# Altium schematic symbol library IC_MEMS.SchLib: 11 symbols
Pins are listed as number, name and electrical type; pins without a type are passive.

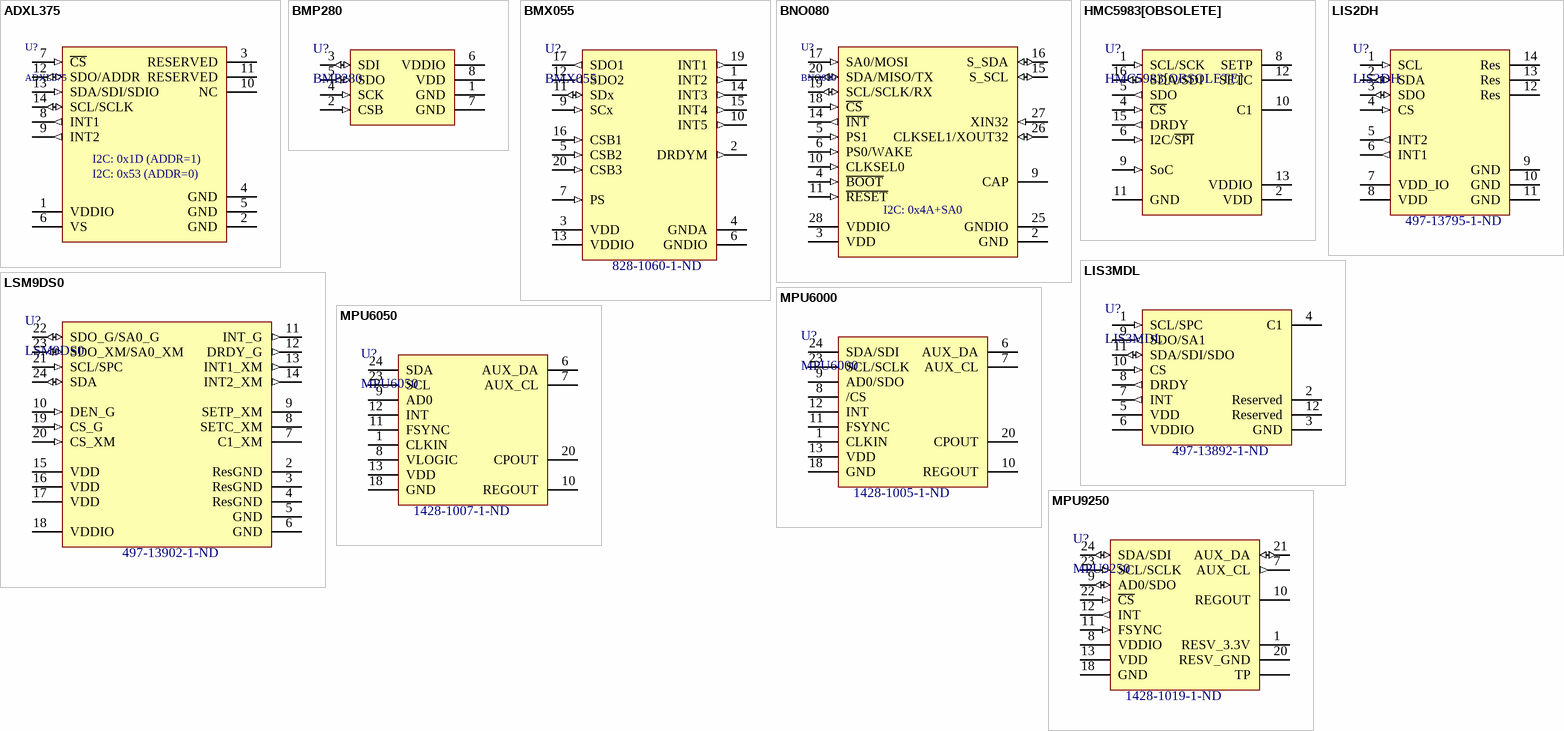
[diagram p0: symbols ADXL375 to MPU9250]

## ADXL375
designator U?
9-axis Acc/Gyro/Mag Cortex-M0+ SiP; HelpURL: http://www.analog.com/media/en/technical-documentation/data-sheets/ADXL375.pdf
footprint LGA-14-3x5 (PQFN, 14-Leads, Body 2,00x2,00mm, Pitch 0,35mm, IPC Medium Density)
pins: 1 VDDIO (power), 2 GND, 3 RESERVED (power), 4 GND, 5 GND, 6 VS (power), 7 ~{CS} (in), 8 INT1 (out), 9 INT2 (out), 10 NC, 11 RESERVED (power), 12 SDO/ADDR (io), 13 SDA/SDI/SDIO (in), 14 SCL/SCLK (io)
text: I2C: 0x1D (ADDR=1); I2C: 0x53 (ADDR=0)

## BMP280
designator U?
Digital Pressure Sensor; Manufacturer: Bosch Sensortec; Supplier 1: Digi-Key
footprint BMP280_LGA2520
pins: 1 GND (power), 2 CSB (in), 3 SDI (io), 4 SCK (in), 5 SDO (io), 6 VDDIO (power), 7 GND (power), 8 VDD (power)

## BMX055
designator U?  Supplier Part Number 1: 828-1060-1-ND
Small versatile 9-axis sensor module; Supplier 1: Digi-Key
footprint LGA20 (QFN, 20-Leads, Body 3,00x4,50mm, Pitch 0,50mm, IPC Medium Density)
pins: 1 INT2 (out), 2 DRDYM (out), 3 VDD, 4 GNDA, 5 CSB2 (in), 6 GNDIO, 7 PS (in), 9 SCx (in), 10 INT5 (out), 11 SDx (io), 12 SDO2 (out), 13 VDDIO, 14 INT3 (out), 15 INT4 (out), 16 CSB1 (in), 17 SDO1 (out), 19 INT1 (out), 20 CSB3 (in)

## BNO080
designator U?
9-axis Acc/Gyro/Mag Cortex-M0+ SiP; HelpURL: http://hillcrestlabs.com/download/4966/
footprint LGA-28-0.5-5.2x3.8 (PQFN, 28-Leads, Body 5,20x3,80mm, Pitch 0,50mm, IPC Medium Density)
pins: 2 GND, 3 VDD (power), 4 ~{BOOT} (in), 5 PS1 (in), 6 PS0/WAKE (in), 9 CAP, 10 CLKSEL0 (in), 11 ~{RESET} (in), 14 ~{INT} (out), 15 S_SCL (io), 16 S_SDA (io), 17 SA0/MOSI (in), 18 ~{CS} (in), 19 SCL/SCLK/RX (io), 20 SDA/MISO/TX (io), 25 GNDIO, 26 CLKSEL1/XOUT32 (io), 27 XIN32 (in), 28 VDDIO (power)
text: I2C: 0x4A+SA0

## HMC5983[OBSOLETE]
designator U?
3-Axis Digital Compass; HelpURL: http://www.farnell.com/datasheets/1802211.pdf
footprint QFN-16-0.5-3x3
footprint QFN-16-0.5-3x3_TP
pins: 1 SCL/SCK (in), 2 VDD, 4 ~{CS} (in), 5 SDO (out), 6 I2C/~{SPI} (in), 8 SETP, 9 SoC (in), 10 C1, 11 GND, 12 SETC, 13 VDDIO, 15 DRDY (out), 16 SDA/SDI (io)

## LIS2DH
designator U?  Supplier Part Number 1: 497-13795-1-ND
MEMS digital output motion sensor: ultra low-power high performance 3-axis “femto” accelerometer; Datasheet: http://www.st.com/st-web-ui/static/active/en/resource/technical/document/datasheet/DM00042751.pdf; Supplier: http://www.compel.ru/infosheet/ST/LIS2DHTR; Supplier 1: Digi-Key
footprint LGA-14-2x2 (PQFN, 14-Leads, Body 2,00x2,00mm, Pitch 0,35mm, IPC Medium Density)
pins: 1 SCL (in), 2 SDA (io), 3 SDO (io), 4 CS (in), 5 INT2 (out), 6 INT1 (out), 7 VDD_IO, 8 VDD, 9 GND, 10 GND, 11 GND, 12 Res, 13 Res, 14 Res

## LIS3MDL
designator U?  Supplier Part Number 1: 497-13892-1-ND
Ultra-low-power high-performance 3-axis magnetometer; HelpURL: http://www.st.com/content/ccc/resource/technical/document/datasheet/54/2a/85/76/e3/97/42/18/DM00075867.pdf/files/DM00075867.pdf/jcr:content/translations/en.DM00075867.pdf; Supplier 1: Digi-Key
footprint LGA-12-0.5-2x2 (PQFN, 12-Leads, Body 2,00x2,00mm, Pitch 0,50mm, IPC Medium Density)
pins: 1 SCL/SPC (in), 2 Reserved, 3 GND, 4 C1, 5 VDD, 6 VDDIO, 7 INT (out), 8 DRDY (out), 9 SDO/SA1 (out), 10 CS (in), 11 SDA/SDI/SDO (io), 12 Reserved

## LSM9DS0
designator U?  Supplier Part Number 1: 497-13902-1-ND
iNEMO inertial module: 3D accelerometer, gyroscope, magnetometer; Supplier 1: Digi-Key
footprint QFN-24-0.5-4x4_TP
pins: 2 ResGND, 3 ResGND, 4 ResGND, 5 GND, 6 GND, 7 C1_XM, 8 SETC_XM, 9 SETP_XM, 10 DEN_G (in), 11 INT_G (out), 12 DRDY_G (out), 13 INT1_XM (out), 14 INT2_XM (out), 15 VDD, 16 VDD, 17 VDD, 18 VDDIO, 19 CS_G (in), 20 CS_XM (in), 21 SCL/SPC (in), 22 SDO_G/SA0_G (io), 23 SDO_XM/SA0_XM (io), 24 SDA (io)

## MPU6000
designator U?  Supplier Part Number 1: 1428-1005-1-ND
6-axis motion tracking device; Supplier 1: Digi-Key
footprint QFN-24-0.5-4x4_TP
pins: 1 CLKIN, 6 AUX_DA, 7 AUX_CL, 8 /CS, 9 AD0/SDO, 10 REGOUT, 11 FSYNC, 12 INT, 13 VDD, 18 GND, 20 CPOUT, 23 SCL/SCLK, 24 SDA/SDI

## MPU6050
designator U?  Supplier Part Number 1: 1428-1007-1-ND
6-axis motion tracking device; Supplier 1: Digi-Key
footprint QFN-24-0.5-4x4_TP
pins: 1 CLKIN, 6 AUX_DA, 7 AUX_CL, 8 VLOGIC, 9 AD0, 10 REGOUT, 11 FSYNC, 12 INT, 13 VDD, 18 GND, 20 CPOUT, 23 SCL, 24 SDA

## MPU9250
designator U?  Supplier Part Number 1: 1428-1019-1-ND
9-axis motion tracking device; Supplier 1: Digi-Key
footprint QFN-24-0.4-3x3_TP (QFN, 24-Leads, Body 3,00x3,00mm, Pitch 0,40mm, Thermal Pad 1,70x1,54mm, IPC High Density)
pins: 0 TP, 1 RESV_3.3V, 7 AUX_CL (out), 8 VDDIO, 9 AD0/SDO (io), 10 REGOUT, 11 FSYNC (in), 12 INT (out), 13 VDD, 18 GND, 20 RESV_GND, 21 AUX_DA (io), 22 ~{CS} (in), 23 SCL/SCLK (in), 24 SDA/SDI (io)